# EAGLE library part MCP73831-DFN8 (library microchip2)
Miniature Single Cell, Fully Integrated Li-Ion, Li-Polymer Charge Management Controller
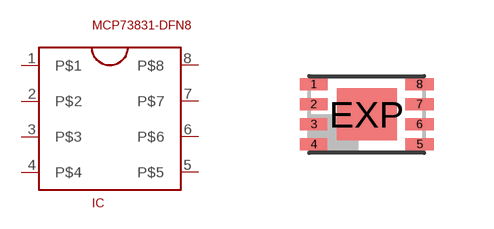
[diagram p145: symbol with the pads of DFN-2X3; footprint DFN-2X3]

Designator prefix IC

## MCP73831-DFN8  [DFN-2X3]
1  P$1  pwr
2  P$2  pwr
3  P$3  pwr
4  P$4  pwr
5  P$5
6  P$6  pwr
7  P$7  nc
8  P$8

## Footprint DFN-2X3 (pad centres in mm)
8-Lead Plastic Dual Flat No Lead Package (MC) 2x3x0.9 mm Body (DFN) - Saw Singulated Source: http://ww1.microchip.com/downloads/en/DeviceDoc/21796H.pdf
smd 0.7 x 0.3: 1 -1.325,0.75; 2 -1.325,0.25; 3 -1.325,-0.25; 4 -1.325,-0.75; 5 1.325,-0.75; 6 1.325,-0.25; 7 1.325,0.25; 8 1.325,0.75
smd 1.5 x 1.3: EXP 0,0